# EAGLE library part MICRO_SD (library CameraTags)
Sparkfun microSD Breakout - SPI/SDIO 1bit accessible https://www.sparkfun.com/products/554
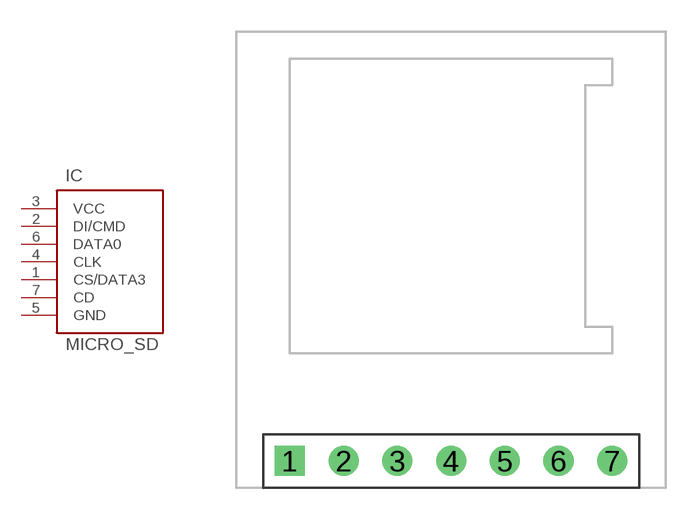
[diagram p18: symbol with the pads of MICRO_SD_SDIO1B; footprint MICRO_SD_SDIO1B]

Designator prefix IC

## MICRO_SD  [MICRO_SD_SDIO1B]
1  CS/DATA3
2  DI/CMD
3  VCC
4  CLK
5  GND
6  DATA0
7  CD

## Footprint MICRO_SD_SDIO1B (pad centres in mm)
Sparkfun microSD Breakout - SPI/SDIO 1bit accessible https://www.sparkfun.com/products/554
drill 0.8 pad 1.422 square: 1 2.54,1.27
drill 0.8 pad 1.422: 2 5.08,1.27; 3 7.62,1.27; 4 10.16,1.27; 5 12.7,1.27; 6 15.24,1.27; 7 17.78,1.27